# Altium footprint library 61204021621.PcbLib: 1 footprints
Each footprint in its own frame and in the unit in brackets; x right, y up, seen from the top. Pads: shape width x height; smd on the part's side, far side on the other; paste and mask are expansions set on the pad; w line width, h text height; cw(c..) or ccw(c..) is an arc to the next point about the centre after c.
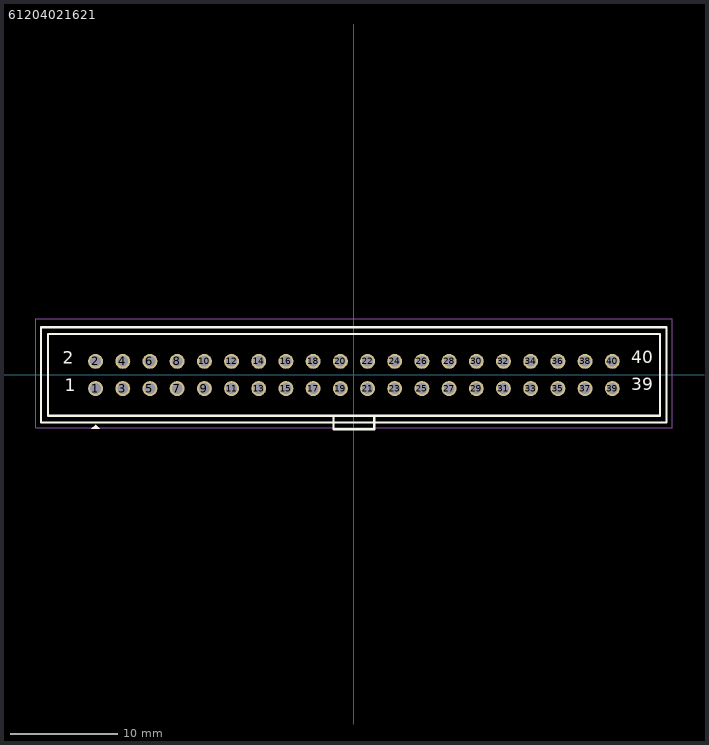
[diagram p0: the footprint, top view; thin cyan lines are the x and y axes]

## 61204021621 [mm]
pads (40):
  round 1.4 / inner round 1.4 / far side oval 1.4x2.2 hole 1: 1(-24.13,-1.27) 2(-24.13,1.27) 3(-21.59,-1.27) 4(-21.59,1.27) 5(-19.05,-1.27) 6(-19.05,1.27) 7(-16.51,-1.27) 8(-16.51,1.27) 9(-13.97,-1.27) 10(-13.97,1.27) 11(-11.43,-1.27) 12(-11.43,1.27) 13(-8.89,-1.27) 14(-8.89,1.27) 15(-6.35,-1.27) 16(-6.35,1.27) 17(-3.81,-1.27) 18(-3.81,1.27) 19(-1.27,-1.27) 20(-1.27,1.27) 21(1.27,-1.27) 22(1.27,1.27) 23(3.81,-1.27) 24(3.81,1.27) 25(6.35,-1.27) 26(6.35,1.27) 27(8.89,-1.27) 28(8.89,1.27) 29(11.43,-1.27) 30(11.43,1.27) 31(13.97,-1.27) 32(13.97,1.27) 33(16.51,-1.27) 34(16.51,1.27) 35(19.05,-1.27) 36(19.05,1.27) 37(21.59,-1.27) 38(21.59,1.27) 39(24.13,-1.27) 40(24.13,1.27)
Top Overlay:
  region: -23.73,-5.045 -24.53,-5.045 -24.13,-4.645
  lines w0.2: -1.905,-3.81 -28.575,-3.81 -28.575,3.81 28.575,3.81 28.575,-3.81 1.905,-3.81 ; -1.905,-3.81 1.905,-3.81 ; -1.905,-3.81 -1.905,-4.445 -1.905,-5.08 1.905,-5.08 1.905,-4.445 1.905,-3.81 ; -29.21,-4.445 -29.21,4.445 29.21,4.445 29.21,-4.445 -29.21,-4.445
  text "1" at -27.005,-1.945 h2
  text "2" at -27.205,0.63 h2
  text "39" at 25.895,-1.87 h2
  text "40" at 25.895,0.68 h2
Top Courtyard:
  lines w0.1: -29.71,-4.945 -29.71,5.25 29.725,5.25 29.725,-4.945 -29.21,-4.945 -29.71,-4.945
3D body "61204021621.stp": height 9.13, standoff -2.98, extent -29.23,-4.425 29.23,4.75